# Altium schematic symbol library Holder,Cell,Dual,21700,SMD.Schlib: 1 symbol
Pins are listed as number, name and electrical type; pins without a type are passive.

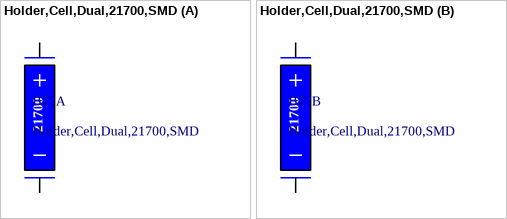
[diagram p0: symbol Holder,Cell,Dual,21700,SMD]

## Holder,Cell,Dual,21700,SMD
designator BT?
Battery Holder (Open) 20700, 21700 2 Cell SMD (SMT) Tab
part A pins: 1, 2
part B pins: 3, 4
part A text: 21700
part B text: 21700